# Altium schematic symbol library RK809.SchLib: 1 symbol
Pins are listed as number, name and electrical type; pins without a type are passive.

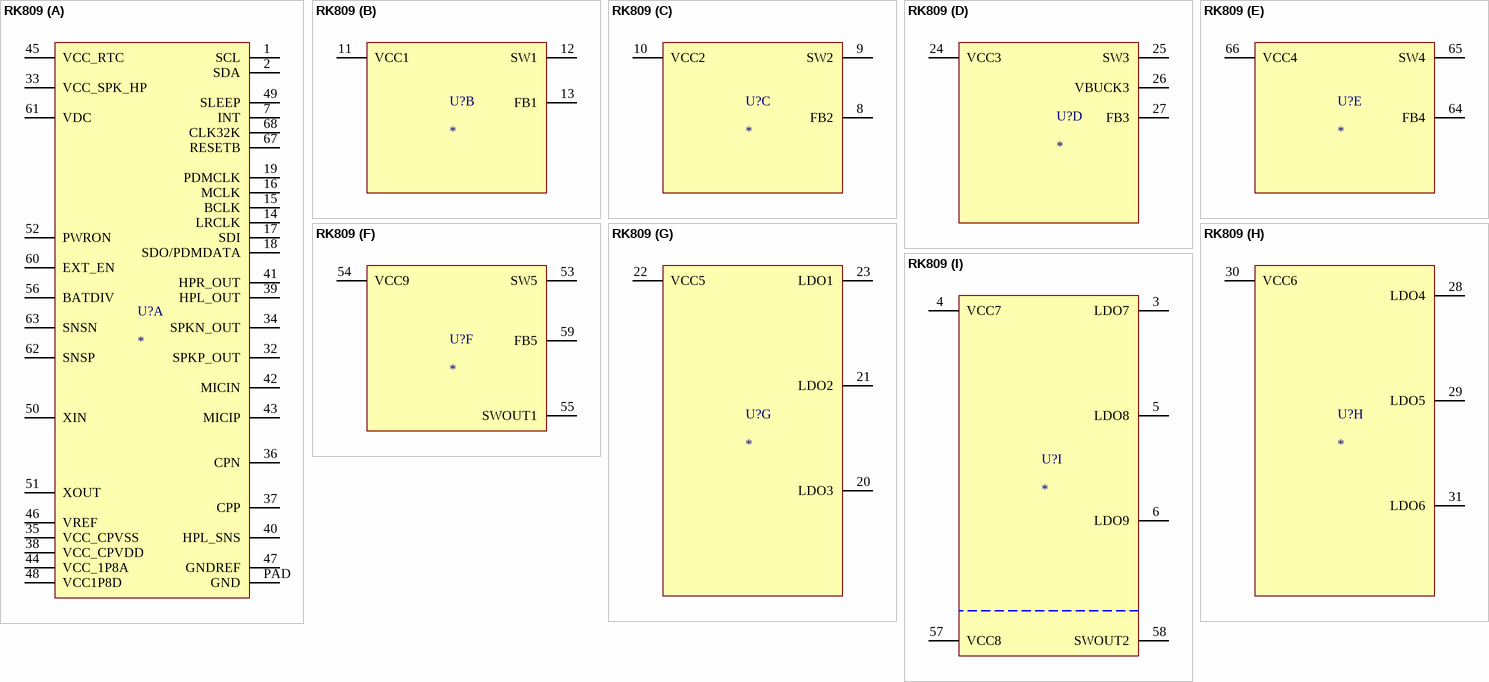
[diagram p0: symbol RK809]

## RK809
designator U?
part A pins: 1 SCL, 2 SDA, 7 INT, 14 LRCLK, 15 BCLK, 16 MCLK, 17 SDI, 18 SDO/PDMDATA, 19 PDMCLK, 32 SPKP_OUT, 33 VCC_SPK_HP, 34 SPKN_OUT, 35 VCC_CPVSS, 36 CPN, 37 CPP, 38 VCC_CPVDD, 39 HPL_OUT, 40 HPL_SNS, 41 HPR_OUT, 42 MICIN, 43 MICIP, 44 VCC_1P8A, 45 VCC_RTC, 46 VREF, 47 GNDREF, 48 VCC1P8D, 49 SLEEP, 50 XIN, 51 XOUT, 52 PWRON, 56 BATDIV, 60 EXT_EN, 61 VDC, 62 SNSP, 63 SNSN, 67 RESETB, 68 CLK32K, PAD GND
part B pins: 11 VCC1, 12 SW1, 13 FB1
part C pins: 8 FB2, 9 SW2, 10 VCC2
part D pins: 24 VCC3, 25 SW3, 26 VBUCK3, 27 FB3
part E pins: 64 FB4, 65 SW4, 66 VCC4
part F pins: 53 SW5, 54 VCC9, 55 SWOUT1, 59 FB5
part G pins: 20 LDO3, 21 LDO2, 22 VCC5, 23 LDO1
part H pins: 28 LDO4, 29 LDO5, 30 VCC6, 31 LDO6
part I pins: 3 LDO7, 4 VCC7, 5 LDO8, 6 LDO9, 57 VCC8, 58 SWOUT2